# Altium footprint library Lib.PcbLib: 22 footprints (part 1 of 2)
Each footprint in its own frame and in the unit in brackets; x right, y up, seen from the top. Pads: shape width x height; smd on the part's side, far side on the other; paste and mask are expansions set on the pad; w line width, h text height; cw(c..) or ccw(c..) is an arc to the next point about the centre after c.
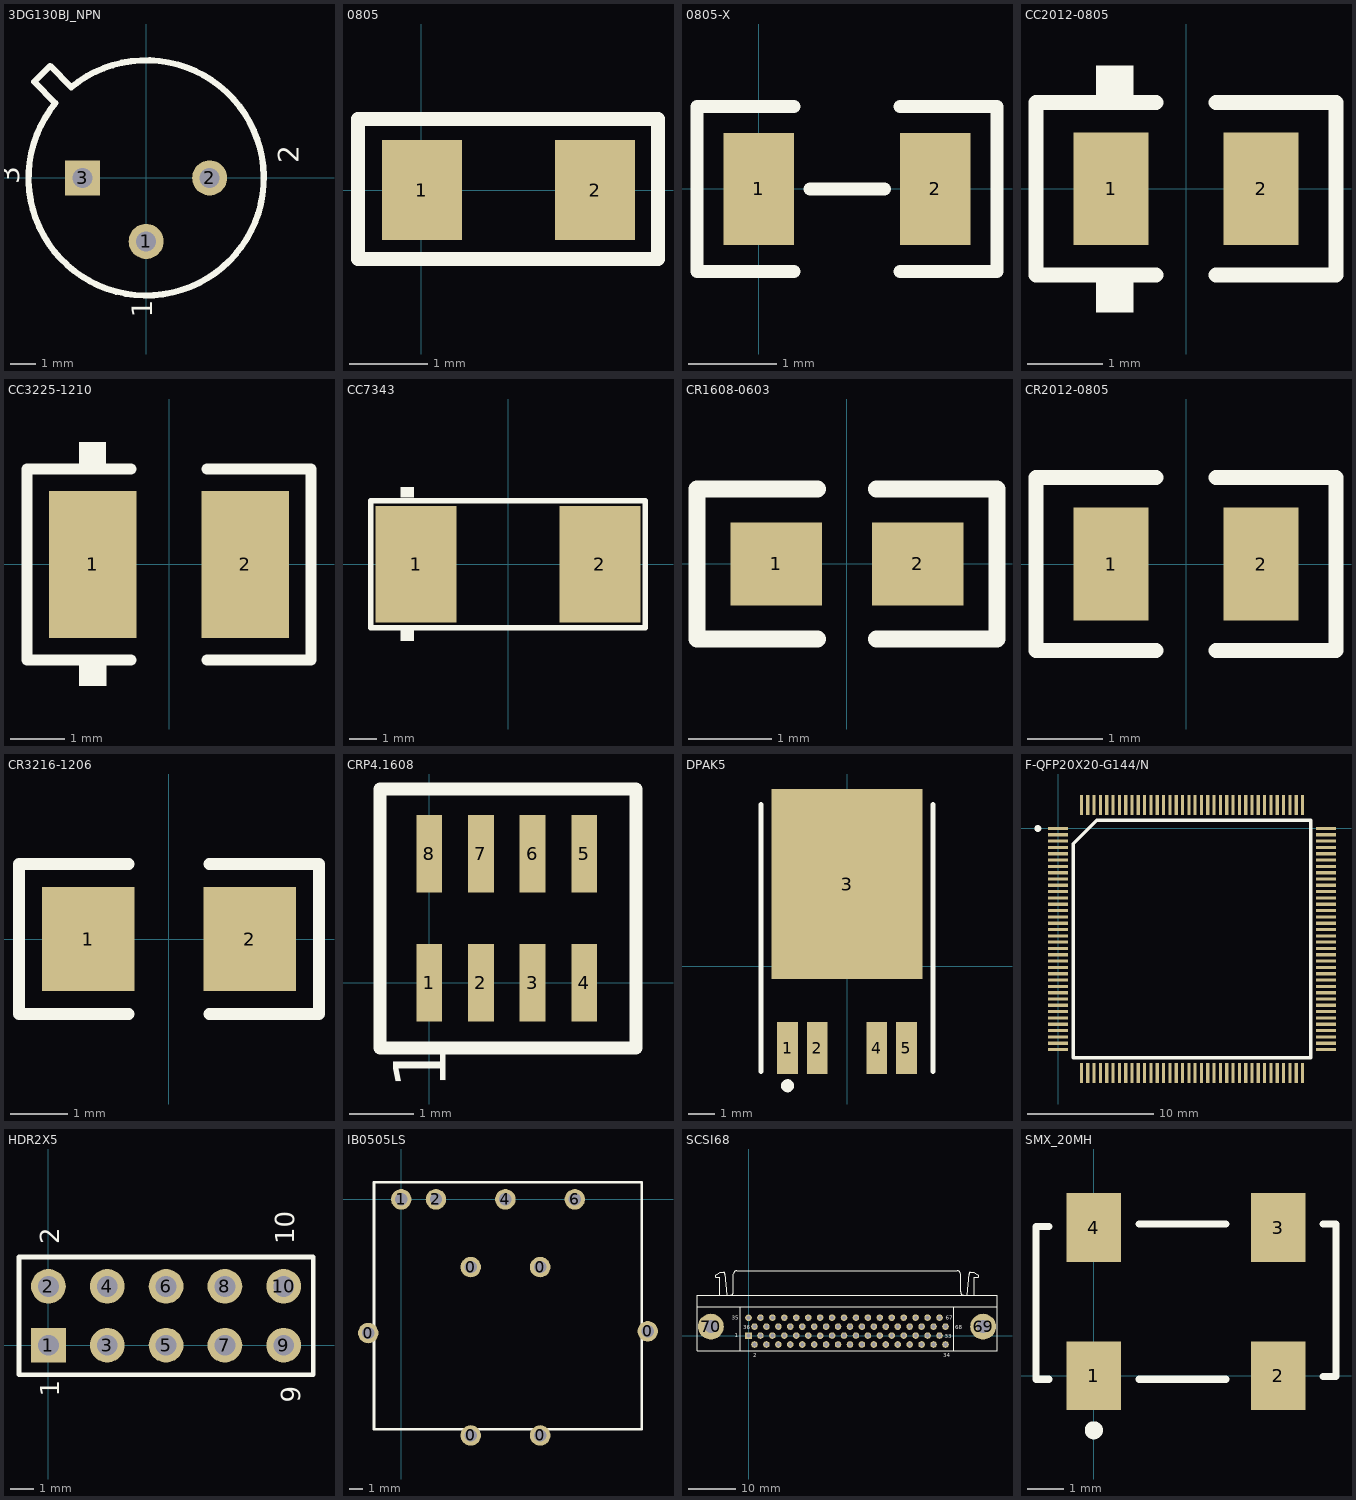
[diagram p0: the footprints below, top view; thin cyan lines are the x and y axes]

## 3DG130BJ_NPN [mm]
pads (3):
  round 1.4 hole 0.8: 1(0,-2.54) 2(2.54,0)
  rect 1.4x1.4 hole 0.8: 3(-2.54,0)
Top Overlay:
  lines w0.25: -4.475,3.838 -3.626,2.99 ccw(c0,0) -2.99,3.626 -3.838,4.475 -4.475,3.838
  text "1" at 0.254,-5.588 h0.81
  text "2" at 6.096,0.584 h0.81
  text "3" at -5.08,-0.254 h0.81

## 0805 [mil]
pads (2):
  rect 40x50 smd: 1(0.43,0.09) 2(86.94,0.09)
Top Overlay:
  lines w7: -31.56,-34.41 118.44,-34.41 118.44,35.59 -31.56,35.59 -31.56,0.59 -31.56,-34.41

## 0805-X [mm]
pads (2):
  rect 0.8x1.27 smd: 1(0,0) 2(2,0)
Top Overlay:
  lines w0.15: 0.4,-0.935 -0.7,-0.935 -0.7,0.935 0.4,0.935 ; 0.584,0 1.422,0 ; 1.6,-0.935 2.7,-0.935 2.7,0.935 1.6,0.935

## CC2012-0805 [mm]
pads (2):
  rect 1x1.5 smd: 1(-1,0) 2(1,0)
Top Overlay:
  rectangle: -1.2,1.239 -0.7,1.639
  rectangle: -1.201,-1.65 -0.701,-1.25
  lines w0.2: -0.4,-1.15 -2,-1.15 -2,1.15 -0.4,1.15 ; 0.4,-1.15 2,-1.15 2,1.15 0.4,1.15

## CC3225-1210 [mm]
pads (2):
  rect 1.6x2.7 smd: 1(-1.4,0) 2(1.4,0)
Top Overlay:
  rectangle: -1.649,-2.233 -1.149,-1.833
  rectangle: -1.653,1.849 -1.153,2.249
  lines w0.2: -0.7,-1.75 -2.6,-1.75 -2.6,1.75 -0.7,1.75 ; 0.7,-1.75 2.6,-1.75 2.6,1.75 0.7,1.75

## CC7343 [mm]
pads (2):
  rect 3x4.3 smd: 1(-3.4,0) 2(3.4,0)
Top Overlay:
  rectangle: -3.978,-2.844 -3.478,-2.444
  rectangle: -3.978,2.464 -3.478,2.864
  lines w0.2: -5.08,2.354 -0.5,2.354 5.08,2.354 5.08,-2.354 -0.5,-2.354 -5.078,-2.354 -5.08,2.354

## CR1608-0603 [mm]
pads (2):
  rect 1.1x1 smd: 1(-0.85,0) 2(0.85,0)
Top Overlay:
  lines w0.2: -0.35,-0.9 -1.8,-0.9 -1.8,0.9 -0.35,0.9 ; 0.35,-0.9 1.8,-0.9 1.8,0.9 0.35,0.9

## CR2012-0805 [mm]
pads (2):
  rect 1x1.5 smd: 1(-1,0) 2(1,0)
Top Overlay:
  lines w0.2: -0.4,-1.15 -2,-1.15 -2,1.15 -0.4,1.15 ; 0.4,-1.15 2,-1.15 2,1.15 0.4,1.15

## CR3216-1206 [mm]
pads (2):
  rect 1.6x1.8 smd: 1(-1.4,0) 2(1.4,0)
Top Overlay:
  lines w0.2: -0.7,-1.3 -2.6,-1.3 -2.6,1.3 -0.7,1.3 ; 0.7,-1.3 2.6,-1.3 2.6,1.3 0.7,1.3

## CRP4.1608 [mm]
pads (8):
  rect 0.4x1.2 smd: 1(0,0) 2(0.8,0) 3(1.6,0) 4(2.4,0) 5(2.4,2) 6(1.6,2) 7(0.8,2) 8(0,2)
Top Overlay:
  lines w0.2: -0.762,-1.016 -0.762,3 3.2,3 3.2,-1.016 -0.762,-1.016
  text "1" at 0.254,-1.648 h0.81

## DPAK5 [mm]
pads (5):
  rect 0.8x2 smd: 1(-2.28,-3.15) 2(-1.14,-3.15) 4(1.14,-3.15) 5(2.28,-3.15)
  rect 5.8x7.3 smd: 3(0,3.15)
Top Overlay:
  circle w0.25: c-2.285,-4.6 r0.125
  lines w0.2: -3.3,-4.05 -3.3,6.2 ; 3.3,-4.05 3.3,6.2

## F-QFP20X20-G144/N [mm]
pads (144):
  rect 1.6x0.25 smd: 1(0,0) 2(0,-0.5) 3(0,-1) 4(0,-1.5) 5(0,-2) 6(0,-2.5) 7(0,-3) 8(0,-3.5) 9(0,-4) 10(0,-4.5) 11(0,-5) 12(0,-5.5) 13(0,-6) 14(0,-6.5) 15(0,-7) 16(0,-7.5) 17(0,-8) 18(0,-8.5) 19(0,-9) 20(0,-9.5) 21(0,-10) 22(0,-10.5) 23(0,-11) 24(0,-11.5) 25(0,-12) 26(0,-12.5) 27(0,-13) 28(0,-13.5) 29(0,-14) 30(0,-14.5) 31(0,-15) 32(0,-15.5) 33(0,-16) 34(0,-16.5) 35(0,-17) 36(0,-17.5) 73(21.2,-17.5) 74(21.2,-17) 75(21.2,-16.5) 76(21.2,-16) 77(21.2,-15.5) 78(21.2,-15) 79(21.2,-14.5) 80(21.2,-14) 81(21.2,-13.5) 82(21.2,-13) 83(21.2,-12.5) 84(21.2,-12) 85(21.2,-11.5) 86(21.2,-11) 87(21.2,-10.5) 88(21.2,-10) 89(21.2,-9.5) 90(21.2,-9) 91(21.2,-8.5) 92(21.2,-8) 93(21.2,-7.5) 94(21.2,-7) 95(21.2,-6.5) 96(21.2,-6) 97(21.2,-5.5) 98(21.2,-5) 99(21.2,-4.5) 100(21.2,-4) 101(21.2,-3.5) 102(21.2,-3) 103(21.2,-2.5) 104(21.2,-2) 105(21.2,-1.5) 106(21.2,-1) 107(21.2,-0.5) 108(21.2,0)
  rect 0.25x1.6 smd: 37(1.85,-19.35) 38(2.35,-19.35) 39(2.85,-19.35) 40(3.35,-19.35) 41(3.85,-19.35) 42(4.35,-19.35) 43(4.85,-19.35) 44(5.35,-19.35) 45(5.85,-19.35) 46(6.35,-19.35) 47(6.85,-19.35) 48(7.35,-19.35) 49(7.85,-19.35) 50(8.35,-19.35) 51(8.85,-19.35) 52(9.35,-19.35) 53(9.85,-19.35) 54(10.35,-19.35) 55(10.85,-19.35) 56(11.35,-19.35) 57(11.85,-19.35) 58(12.35,-19.35) 59(12.85,-19.35) 60(13.35,-19.35) 61(13.85,-19.35) 62(14.35,-19.35) 63(14.85,-19.35) 64(15.35,-19.35) 65(15.85,-19.35) 66(16.35,-19.35) 67(16.85,-19.35) 68(17.35,-19.35) 69(17.85,-19.35) 70(18.35,-19.35) 71(18.85,-19.35) 72(19.35,-19.35) 109(19.35,1.85) 110(18.85,1.85) 111(18.35,1.85) 112(17.85,1.85) 113(17.35,1.85) 114(16.85,1.85) 115(16.35,1.85) 116(15.85,1.85) 117(15.35,1.85) 118(14.85,1.85) 119(14.35,1.85) 120(13.85,1.85) 121(13.35,1.85) 122(12.85,1.85) 123(12.35,1.85) 124(11.85,1.85) 125(11.35,1.85) 126(10.85,1.85) 127(10.35,1.85) 128(9.85,1.85) 129(9.35,1.85) 130(8.85,1.85) 131(8.35,1.85) 132(7.85,1.85) 133(7.35,1.85) 134(6.85,1.85) 135(6.35,1.85) 136(5.85,1.85) 137(5.35,1.85) 138(4.85,1.85) 139(4.35,1.85) 140(3.85,1.85) 141(3.35,1.85) 142(2.85,1.85) 143(2.35,1.85) 144(1.85,1.85)
Top Overlay:
  circle w0.25: c-1.6,0 r0.15
  lines w0.25: 1.2,-18.15 20,-18.15 20,0.65
  lines w0.254: 1.2,-18.15 1.2,-4.521 ; 1.2,-5.74 1.2,-1.198 3.048,0.65 4.674,0.65 20,0.65

## HDR2X5 [mm]
pads (10):
  rect 1.5x1.5 hole 0.9: 1(0,0)
  round 1.5 hole 0.9: 2(0,2.54) 3(2.54,0) 4(2.54,2.54) 5(5.08,0) 6(5.08,2.54) 7(7.62,0) 8(7.62,2.54) 9(10.16,0) 10(10.16,2.54)
Top Overlay:
  lines w0.2: -1.27,-1.27 11.43,-1.27 11.43,3.81 -1.27,3.81 -1.27,-1.27
  text "10" at 10.617,4.369 h0.81
  text "9" at 10.871,-2.489 h0.81
  text "1" at 0.457,-2.235 h0.81
  text "2" at 0.457,4.369 h0.81

## IB0505LS [mm]
pads (10):
  round 1.5 hole 0.9: 0(-2.413,-9.779) 0(5.08,-17.272) 0(5.08,-4.953) 0(10.16,-17.272) 0(10.16,-4.953) 0(18.034,-9.652) 1(0,0) 2(2.54,0) 4(7.62,0) 6(12.7,0)
Top Overlay:
  lines w0.2: 17.6,-16.815 -2,-16.815 -2,1.25 17.6,1.25 17.6,0 17.6,-16.764

## SCSI68 [mm]
pads (70):
  rect 1.4x1.4 hole 0.8: 1(0,0)
  round 1.4 hole 0.8: 2(1.27,-1.905) 3(2.54,0) 4(3.81,-1.905) 5(5.08,0) 6(6.35,-1.905) 7(7.62,0) 8(8.89,-1.905) 9(10.16,0) 10(11.43,-1.905) 11(12.7,0) 12(13.97,-1.905) 13(15.24,-0.041) 14(16.51,-1.905) 15(17.78,0) 16(19.05,-1.905) 17(20.32,0) 18(21.59,-1.905) 19(22.86,0) 20(24.13,-1.905) 21(25.4,0) 22(26.67,-1.905) 23(27.94,0) 24(29.21,-1.905) 25(30.48,0) 26(31.75,-1.905) 27(33.02,0) 28(34.29,-1.905) 29(35.56,0) 30(36.83,-1.905) 31(38.1,0) 32(39.37,-1.905) 33(40.64,0) 34(41.91,-1.905) 35(0,3.769) 36(1.27,1.905) 37(2.54,3.81) 38(3.81,1.905) 39(5.08,3.81) 40(6.35,1.905) 41(7.62,3.81) 42(8.89,1.905) 43(10.16,3.81) 44(11.43,1.905) 45(12.7,3.81) 46(13.97,1.905) 47(15.24,3.81) 48(16.51,1.905) 49(17.78,3.81) 50(19.05,1.905) 51(20.32,3.81) 52(21.59,1.905) 53(22.86,3.81) 54(24.13,1.905) 55(25.4,3.81) 56(26.67,1.905) 57(27.94,3.81) 58(29.21,1.905) 59(30.48,3.81) 60(31.75,1.905) 61(33.02,3.81) 62(34.29,1.905) 63(35.56,3.81) 64(36.83,1.905) 65(38.1,3.81) 66(39.37,1.905) 67(40.64,3.81) 68(41.91,1.905)
  round 5.5 hole 2.8: 69(49.92,1.905) 70(-8.01,1.905)
Top Overlay:
  lines w0.2: -10.96,6.095 52.87,6.095 ; -6.975,12.865 -6.035,13.493 -5.313,13.493 cw(c-5.415,13.095) -5.005,13.095 ; -6.961,12.85 ccw(c-6.735,12.605) -6.985,12.385 -6.105,12.385 -6.105,8.595 ; -5.005,13.115 -4.635,8.595 ; -3.895,8.6 ccw(c-3.895,9.295) -3.2,9.295 -3.2,13.095 ; -3.195,13.1 cw(c-2.5,13.1) -2.5,13.795 44.41,13.795 cw(c44.41,13.1) 45.105,13.1 ; -1.76,-3.205 -1.76,6.015 ; 43.67,-3.205 43.67,6.095 ; 45.11,13.095 45.11,9.295 ccw(c45.805,9.295) 45.805,8.6 ; 46.545,8.595 46.915,13.115 ; 46.915,13.095 cw(c47.325,13.095) 47.223,13.493 47.945,13.493 48.885,12.865 ; 48.015,8.595 48.015,12.385 48.895,12.385 ccw(c48.645,12.605) 48.871,12.85 ; -10.96,-3.205 -10.96,8.595 52.87,8.595 52.87,-3.205 -10.96,-3.205
  text "2" at 1.041,-4.623 h0.89
  text "34" at 41.478,-4.623 h0.89
  text "33" at 41.783,-0.533 h0.89
  text "68" at 44.018,1.372 h0.89
  text "67" at 41.935,3.404 h0.89
  text "35" at -3.556,3.353 h0.89
  text "36" at -1.143,1.321 h0.89
  text "1" at -2.896,-0.406 h0.89

## SMX_20MH [mm]
pads (4):
  rect 1.5x1.9 smd: 1(0.005,0) 2(5.105,0) 3(5.105,4.1) 4(0.005,4.1)
Top Overlay:
  circle w0.25: c0.005,-1.51 r0.125
  lines w0.2: -1.245,-0.1 -1.595,-0.1 -1.595,4.125 -1.245,4.125 ; 1.255,-0.1 3.655,-0.1 ; 1.255,4.2 3.655,4.2 ; 6.355,-0.025 6.705,-0.025 6.705,4.2 6.355,4.2